# EAGLE library part AT24C512 (library IC)
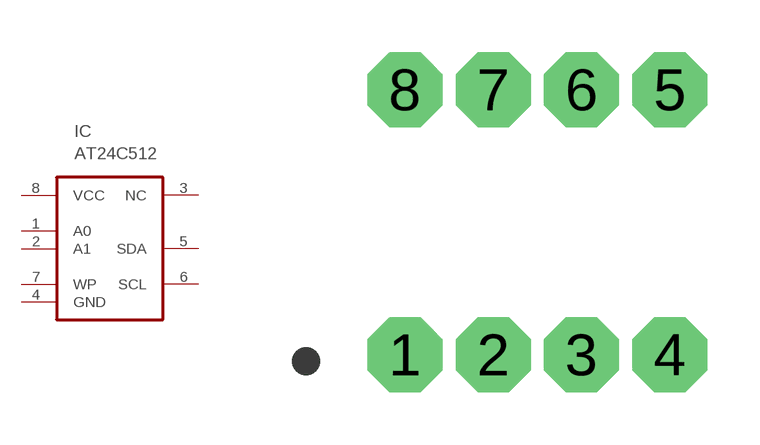
[diagram p7: symbol with the pads of DIP8-2.54; footprint DIP8-2.54]

Designator prefix IC

## AT24C512  [DIP8-2.54]
1  A0  in
2  A1  in
3  NC  nc
4  GND  pwr
5  SDA
6  SCL
7  WP  in
8  VCC  pwr

## Footprint DIP8-2.54 (pad centres in mm)
drill 1.016 pad 2.159 octagon: 1 -3.81,-3.81; 2 -1.27,-3.81; 3 1.27,-3.81; 4 3.81,-3.81; 5 3.81,3.81; 6 1.27,3.81; 7 -1.27,3.81; 8 -3.81,3.81